# EAGLE library part IL300-F-X007 (library SamacSys_Parts)
Optocoupler DC-IN 1-CH Linear Photovoltaic DC-OUT 8-Pin PDIP-8A SMD Source: Datasheet <https://componentsearchengine.com/Datasheets/2/IL300-F-X007.pdf>
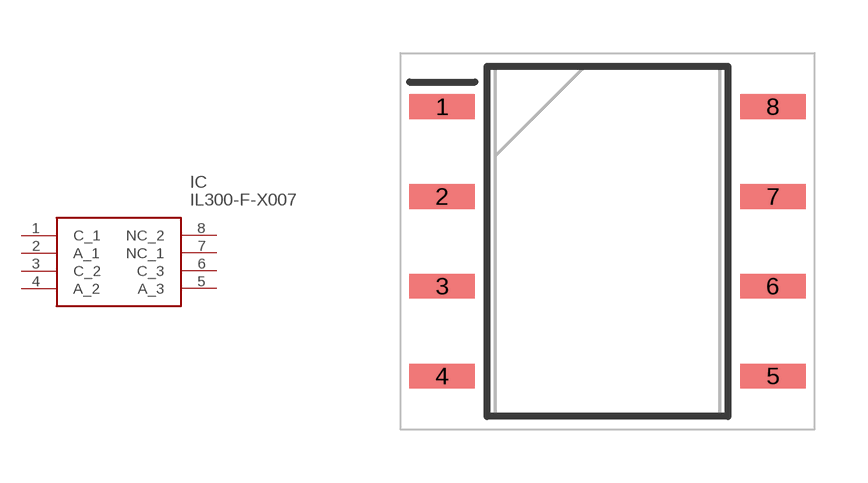
[diagram p20: symbol with the pads of SOP254P1030X470-8N; footprint SOP254P1030X470-8N]

Designator prefix IC

## IL300-F-X007 (DESCRIPTION: Optocoupler DC-IN 1-CH Linear Photovoltaic DC-OUT 8-Pin PDIP-8A SMD; HEIGHT: 4.7mm; MANUFACTURER_NAME: Vishay; MANUFACTURER_PART_NUMBER: IL300-F-X007; MOUSER_PART_NUMBER: 782-IL300-F-X007; MOUSER_PRICE-STOCK: https://www.mouser.com/Search/Refine.aspx?Keyword=782-IL300-F-X007)  [SOP254P1030X470-8N]
1  C_1
2  A_1
3  C_2
4  A_2
5  A_3
6  C_3
7  NC_1
8  NC_2

## Footprint SOP254P1030X470-8N (pad centres in mm)
SMD-8 Option 7
smd 1.85 x 0.7: 1 -4.675,3.81; 2 -4.675,1.27; 3 -4.675,-1.27; 4 -4.675,-3.81; 5 4.675,-3.81; 6 4.675,-1.27; 7 4.675,1.27; 8 4.675,3.81